# Altium footprint library connectors_other.PcbLib: 33 footprints (part 2 of 3)
Each footprint in its own frame and in the unit in brackets; x right, y up, seen from the top. Pads: shape width x height; smd on the part's side, far side on the other; paste and mask are expansions set on the pad; w line width, h text height; cw(c..) or ccw(c..) is an arc to the next point about the centre after c.
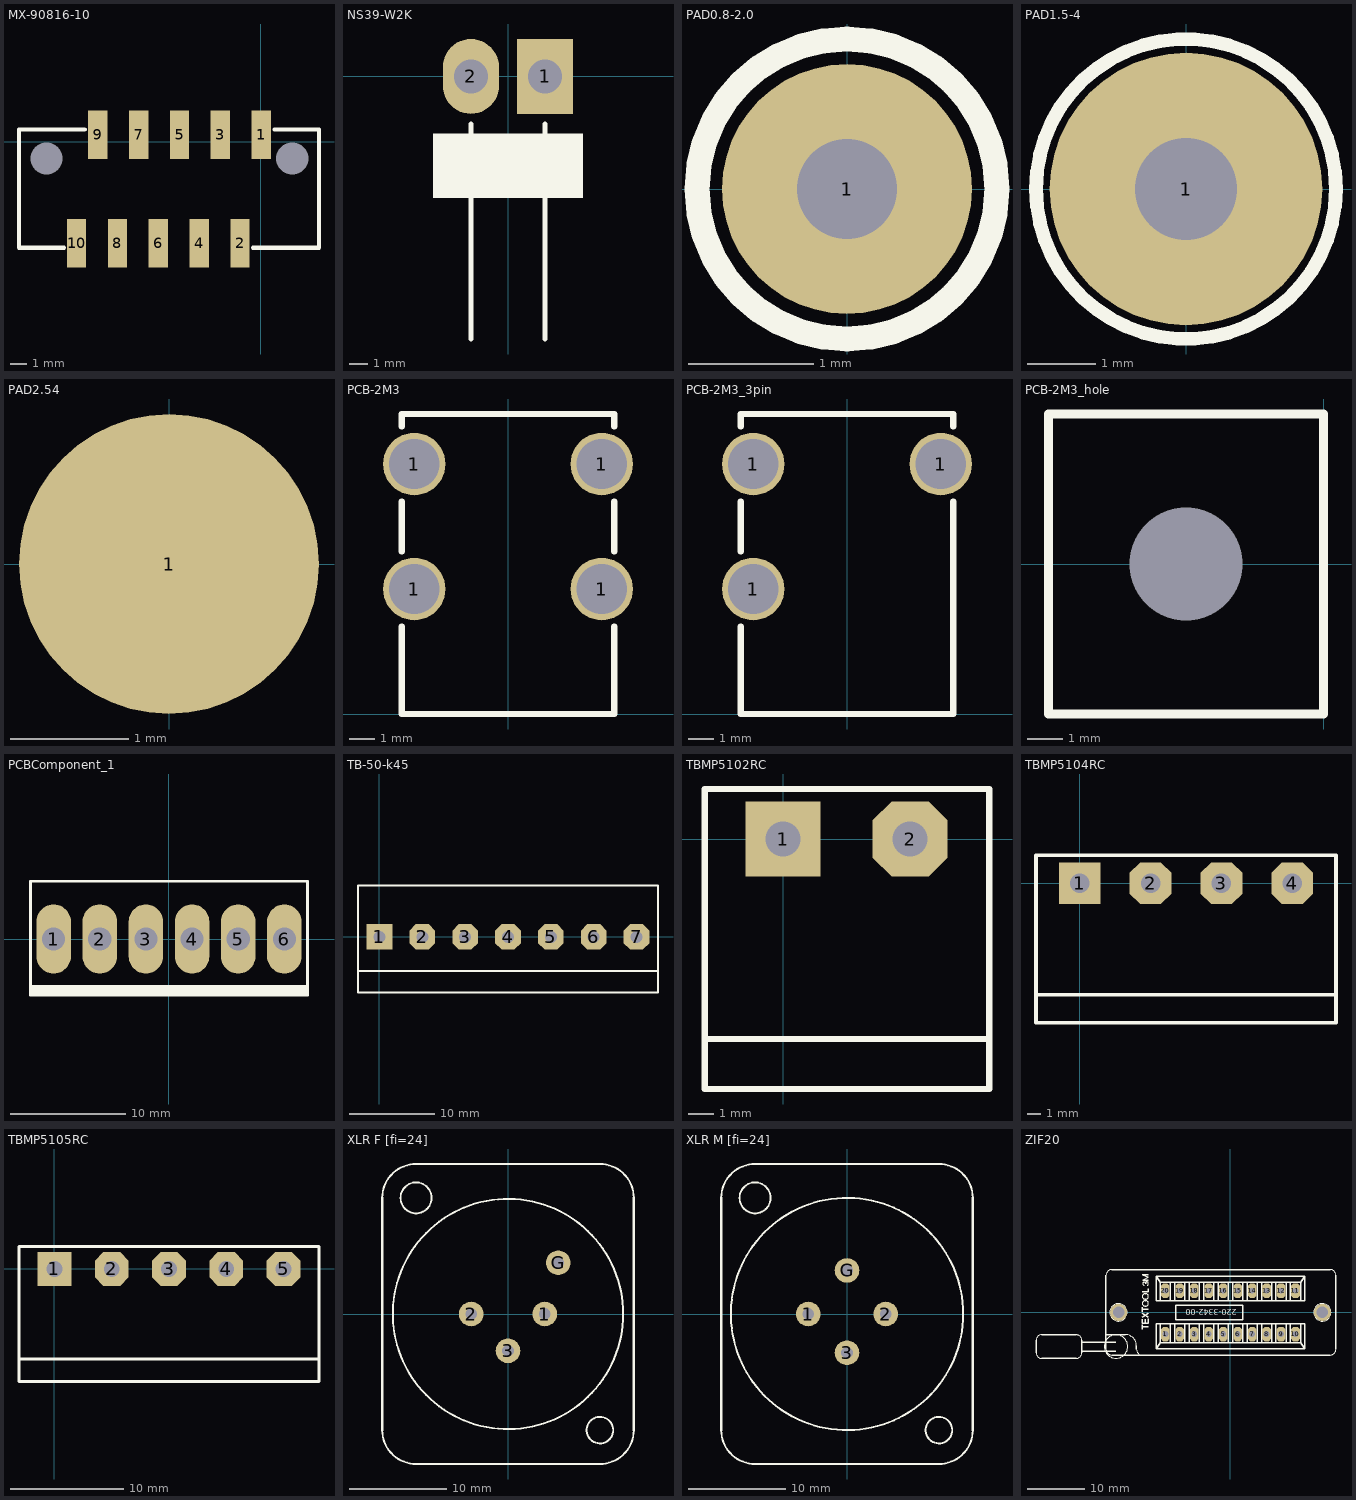
[diagram p1: the footprints below, top view; thin cyan lines are the x and y axes]

## MX-90816-10 [mm]
pads (12):
  round 0 hole 2: 0(-13.33,-1.05) 0(1.95,-1.05)
  rect 1.2x3 smd: 1(0.02,0.43) 2(-1.3,-6.33) 3(-2.52,0.43) 4(-3.84,-6.33) 5(-5.06,0.43) 6(-6.38,-6.33) 7(-7.6,0.43) 8(-8.92,-6.33) 9(-10.14,0.43) 10(-11.46,-6.33)
Top Overlay:
  lines w0.254: -12.25,-6.6 -15.04,-6.6 -15.04,0.75 -10.95,0.75 ; -0.5,-6.6 3.61,-6.6 3.61,0.75 0.85,0.75

## NS39-W2K [mm]
pads (2):
  rect 3x4 hole 1.8: 1(1.981,0)
  oval 3x4 hole 1.8: 2(-1.981,0)
Top Overlay:
  rectangle: -4.013,-6.502 4.013,-3.048
  lines w0.254: -1.981,-14.021 -1.981,-2.54 ; 1.981,-14.021 1.981,-2.54

## PAD0.8-2.0 [mm] "Cable soldering PAD"
pads (1):
  round 2 hole 0.8: 1(0,0)
Top Overlay:
  circle w0.2: c0,0 r1.2

## PAD1.5-4 [mm] "Cable soldering PAD"
pads (1):
  round 4 hole 1.5: 1(0,0)
Top Overlay:
  circle w0.2: c0,0 r2.2

## PAD2.54 [mm]
pads (1):
  round 2.54 smd: 1(0,0)

## PCB-2M3 [mm]
pads (4):
  round 2.5 hole 2: 1(-3.75,5) 1(-3.75,10) 1(3.75,5) 1(3.75,10)
Top Overlay:
  lines w0.254: -4.25,3.5 -4.25,0 -3.75,0 4.25,0 4.25,3.5 ; -4.25,6.5 -4.25,8.5 ; -4.25,11.5 -4.25,12 -3.75,12 3.75,12 4.25,12 4.25,11.5 ; -1.5,0 1.5,0 ; 4.25,6.5 4.25,8.5

## PCB-2M3_3pin [mm]
pads (3):
  round 2.5 hole 2: 1(-3.75,5) 1(-3.75,10) 1(3.75,10)
Top Overlay:
  lines w0.254: -4.25,3.5 -4.25,0 -3.75,0 4.25,0 4.25,3.5 ; -4.25,6.5 -4.25,8.5 ; -4.25,11.5 -4.25,12 -3.75,12 3.75,12 4.25,12 4.25,11.5 ; -1.5,0 1.5,0 ; 4.25,3.45 4.25,8.5

## PCB-2M3_hole [mm]
pads (1):
  round 0 hole 3.2: 1(-3.9,0)
Top Overlay:
  lines w0.254: -7.8,-4.25 0,-4.25 0,4.25 -7.8,4.25 -7.8,-4.25

## PCBComponent_1 [mm]
pads (6):
  oval 3x6 hole 2: 1(-10,0) 2(-6,0) 3(-2,0) 4(2,0) 5(6,0) 6(10,0)
Top Overlay:
  rectangle: -12,-5 12,-4
  lines w0.25: -11.75,-4.875 -12,-4.875 -12,5 12,5 12,-4.875 11.725,-4.875

## TB-50-k45 [mm]
height 12.5
pads (7):
  rect 3x3 hole 1.4: 1(0,0)
  oct 3x3 hole 1.4: 2(5,0) 3(10,0) 4(15,0) 5(20,0) 6(25,0) 7(30,0)
Top Overlay:
  lines w0.254: -2.5,-4 32.5,-4 ; -2.5,-6.5 -2.5,6 32.5,6 32.5,-6.5 -2.5,-6.5

## TBMP5102RC [mm]
height 8.4
pads (2):
  rect 3x3 hole 1.4: 1(0,0)
  oct 3x3 hole 1.4: 2(5.08,0)
Top Overlay:
  lines w0.254: -3.14,-8 8.25,-8 ; -3.14,-10 8.25,-10 8.25,2 -3.14,2 -3.14,-10

## TBMP5104RC [mm]
height 8.4
pads (4):
  rect 3x3 hole 1.4: 1(0,0)
  oct 3x3 hole 1.4: 2(5.08,0) 3(10.16,0) 4(15.24,0)
Top Overlay:
  lines w0.254: -3.14,-8 18.38,-8 ; -3.14,-10 -3.14,2 18.38,2 18.38,-10 -3.14,-10

## TBMP5105RC [mm]
height 8.4
pads (5):
  rect 3x3 hole 1.4: 1(0,0)
  oct 3x3 hole 1.4: 2(5.08,0) 3(10.16,0) 4(15.24,0) 5(20.32,0)
Top Overlay:
  lines w0.254: -3.14,-8 23.46,-8 ; -3.14,-10 -3.14,2 23.46,2 23.46,-10 -3.14,-10

## XLR F [fi=24] [mm]
height 24
pads (4):
  round 2.54 hole 1.2: 1(3.81,0) 2(-3.81,0) 3(0,-3.81) G(5.2,5.3)
Top Overlay:
  circle w0.2: c0,0 r11.9
  circle w0.2: c-9.5,12 r1.6
  circle w0.2: c9.5,-12 r1.374
  lines w0.2: -13,-12 ccw(c-9.5,-12) -9.5,-15.5 ; -13,12 cw(c-9.5,12) -9.5,15.5 ; 9.5,-15.5 ccw(c9.5,-12) 13,-12 ; 9.5,15.5 cw(c9.5,12) 13,12
  lines w0.254: -13,-12 -13,12 ; -9.5,-15.5 9.5,-15.5 ; -9.5,15.5 9.5,15.5 ; 13,-12 13,12

## XLR M [fi=24] [mm]
height 24
pads (4):
  round 2.54 hole 1.2: 1(-4,0) 2(4,0) 3(0,-4) G(0,4.5)
Top Overlay:
  circle w0.2: c9.5,-12 r1.374
  circle w0.2: c-9.5,12 r1.6
  circle w0.2: c0,0 r12
  lines w0.2: -13,-12 ccw(c-9.5,-12) -9.5,-15.5 ; -13,12 cw(c-9.5,12) -9.5,15.5 ; 9.5,-15.5 ccw(c9.5,-12) 13,-12 ; 9.5,15.5 cw(c9.5,12) 13,12
  lines w0.254: -13,-12 -13,12 ; -9.5,-15.5 9.5,-15.5 ; -9.5,15.5 9.5,15.5 ; 13,-12 13,12

## ZIF20 [mil]
height 472.44
pads (22):
  oct 60x100 hole 40: 1(-450,-150) 2(-350,-150) 3(-250,-150) 4(-150,-150) 5(-50,-150) 6(50,-150) 7(150,-150) 8(250,-150) 9(350,-150) 10(450,-150) 11(450,150) 12(350,150) 13(250,150) 14(150,150) 15(50,150) 16(-50,150) 17(-150,150) 18(-250,150) 19(-350,150) 20(-450,150)
  round 118.11 hole 78.74 unplated: ""(-774.02,0) ""(636.22,0)
Top Overlay:
  drawing of 157 lines, arcs and shapes, not listed
  text "220-3342-00" at 45,20 h40